# Altium footprint library PcbLib2.PcbLib: 1 footprints
Each footprint in its own frame and in the unit in brackets; x right, y up, seen from the top. Pads: shape width x height; smd on the part's side, far side on the other; paste and mask are expansions set on the pad; w line width, h text height; cw(c..) or ccw(c..) is an arc to the next point about the centre after c.

## PCBComponent_1 [mil]
pads (14):
  round 60 hole 30: 0(-50000,-50000) 1(29940,23915) 2(30125,22390) 3(31785,21470) 4(29985,18750) 5(32015,16950) 6(23810,14140) 7(-7995,34415) 8(-2090,30770) 9(-3385,33125) 10(-5690,34875) 11(-665,31050) 12(120,33540) 13(-4400,49999)
via 260,33720 diameter 50 hole 28
via 1965,32845 diameter 50 hole 28
via -4905,34000 diameter 50 hole 28
via -5090,39255 diameter 50 hole 28
via -8455,35335 diameter 50 hole 28
via -3705,34185 diameter 50 hole 28
via -4215,34185 diameter 50 hole 28
via -8410,34920 diameter 50 hole 28
via -9240,37595 diameter 50 hole 28
via -3800,37180 diameter 50 hole 28
via -2000,33170 diameter 50 hole 28
via -4995,33630 diameter 50 hole 28
via -9380,34875 diameter 50 hole 28
via -7165,32755 diameter 50 hole 28
via -4950,30725 diameter 50 hole 28
via -9700,34090 diameter 50 hole 28